# EAGLE library part USB1130-15-A (library USB1130-15-A)
USB Connectors USB A 2.0 Skt RA High Life 15u" T Hole W/Shell Stake T & R Source: Datasheet <https://gct.co/files/drawings/usb1130.pdf?v=af75e0ab-3313-4c97-a925-9953a1c7de6b>
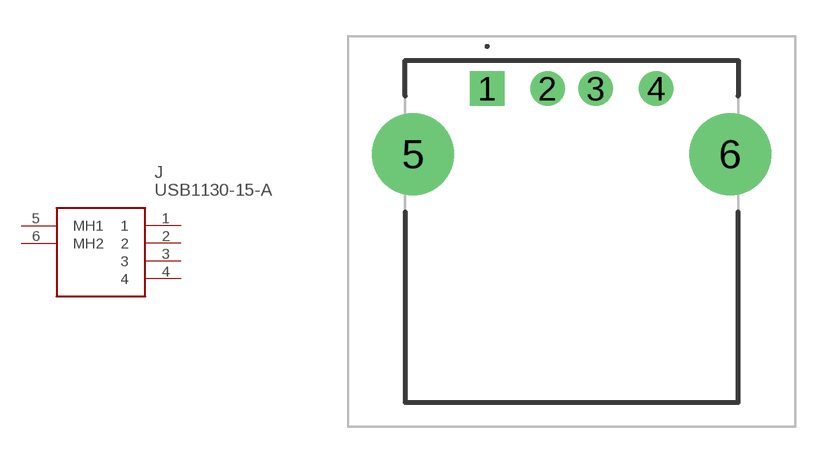
[diagram p0: symbol with the pads of USB113015A; footprint USB113015A]

Designator prefix J

## USB1130-15-A (Description: USB Connectors USB A 2.0 Skt RA High Life 15u" T Hole W/Shell Stake T & R; Height: 7.24mm; Manufacturer_Name: GCT (GLOBAL CONNECTOR TECHNOLOGY); Manufacturer_Part_Number: USB1130-15-A; Mouser_Part_Number: 640-USB1130-15-A; Mouser_Price-Stock: https://www.mouser.co.uk/ProductDetail/GCT/USB1130-15-A?qs=KUoIvG%2F9IlbUm2WMV7vmzg%3D%3D)  [USB113015A]
1  1
2  2
3  3
4  4
5  MH1
6  MH2

## Footprint USB113015A (pad centres in mm)
USB1130-15-A-4
drill 0.92 pad 1.431 square: 1 0,0
drill 0.92 pad 1.431: 2 2.5,0; 3 4.5,0; 4 7,0
drill 2.26 pad 3.39: 5 -3.07,-2.71; 6 10.07,-2.71